# EAGLE library part 6120XX22121_61201022121 (library con-wurth-board-header)
WR-BHD 2.54 mm Male Box Header with short lever KIND PROPERTIES: Pitch 2.54 mm Gender:Male MATERIAL PROPERTIES: Insulator Material:PBT Insulator Flammability Rating UL94 V-0 Insulator Color:Black Contact Material :Copper Alloy Contact Plating :Gold Contact Type: Stamped GENERAL INFORMATION: Operating Temperature:-40 °C up to +125 °C Compliance:RoHS Working Voltage: 250 V (AC) Withstanding Voltage:500 V (AC) Contact Resistance: 20 mΩ Insulation Resistance:1000 MΩ PACKAGING PROPERTIES Packaging :Tray <https://www.we-online.de/katalog/media/o77864v209%20Family_61201022821.jpg> Details see: https://www.we-online.de/katalog/en/em/BHD_2_54_MALE_BOX_HEADER_WITH_SHORT_LEVER_6120XX22021 Updated by Yingchun,Shan 2019-10-30 2019 (C) Würth Elektronik
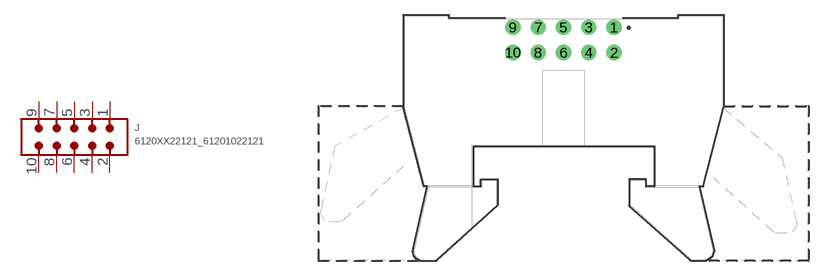
[diagram p177: symbol with the pads of 61201022121; footprint 61201022121]

Designator prefix J

## 6120XX22121_61201022121 (CONTACT-RESISTANCE: 20mOhm; DATASHEET-URL: https://www.we-online.com/redexpert/spec/61201022121?ae; GENDER: Male; IR: 3A; LENGTH: 32.2mm; MOUNT: THT; PACKAGING: Tray; PART-NUMBER: 61201022121; PINS: 10; PITCH: 2.54mm; TYPE: Angled; VALUE: 61201022121; WORKING-VOLTAGE: 250V(AC))  [61201022121]
1  1  pas
2  2  pas
3  3  pas
4  4  pas
5  5  pas
6  6  pas
7  7  pas
8  8  pas
9  9  pas
10  10  pas

## Footprint 61201022121 (pad centres in mm)
WR-BHD 2.54 mm Male Angled Box Header with short lever,10 Pins
drill 1.02: 1 5.08,7.36; 2 5.08,4.82; 3 2.54,7.36; 4 2.54,4.82; 5 0,7.36; 6 0,4.82; 7 -2.54,7.36; 8 -2.54,4.82; 9 -5.08,7.36; 10 -5.08,4.82